# EAGLE library part PANASONIC-GRID-EYE (library arducorder-mini)
Panasonic Grid-Eye 8x8 Thermal Imager (I2C)
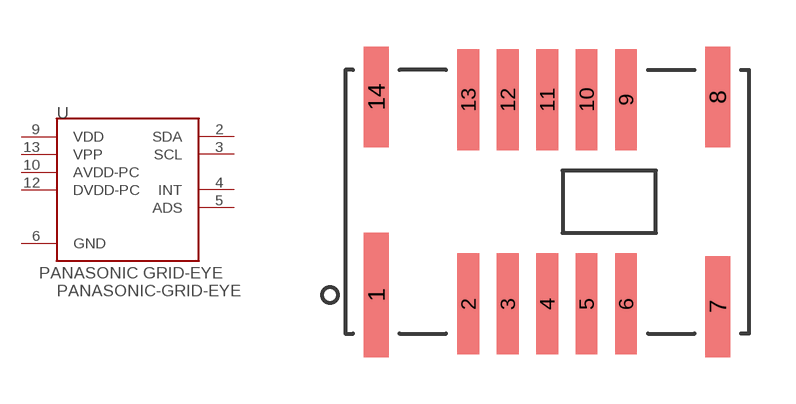
[diagram p7: symbol with the pads of PANASONIC-GRID-EYE; footprint PANASONIC-GRID-EYE]

Designator prefix -

## PANASONIC-GRID-EYE  [PANASONIC-GRID-EYE]
2  SDA
3  SCL
4  INT
5  ADS
6  GND
9  VDD
10  AVDD-PC
12  DVDD-PC
13  VPP

## Footprint PANASONIC-GRID-EYE (pad centres in mm)
smd 0.8 x 4: 1 -5.5,-3
smd 0.7 x 3.25: 2 -2.54,-3.29; 3 -1.27,-3.29; 4 0,-3.29; 5 1.27,-3.29; 6 2.54,-3.29; 9 2.54,3.29; 10 1.27,3.29; 11 0,3.29; 12 -1.27,3.29; 13 -2.54,3.29
smd 0.8 x 3.25: 7 5.5,-3.375; 8 5.5,3.375; 14 -5.5,3.375